# Altium footprint library PCB_PowerSupply.PcbLib: 3 footprints
Each footprint in its own frame and in the unit in brackets; x right, y up, seen from the top. Pads: shape width x height; smd on the part's side, far side on the other; paste and mask are expansions set on the pad; w line width, h text height; cw(c..) or ccw(c..) is an arc to the next point about the centre after c.
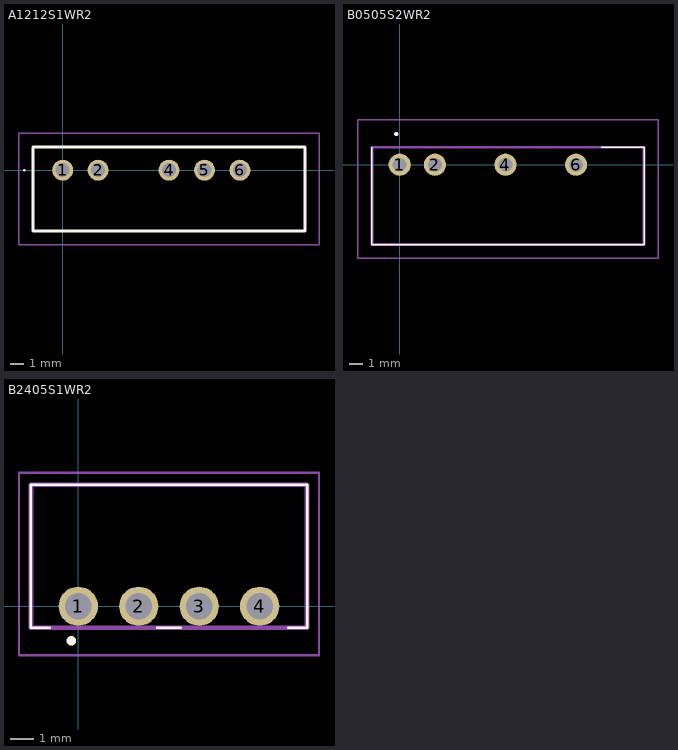
[diagram p0: the footprints below, top view; thin cyan lines are the x and y axes]

## A1212S1WR2 [mm]
pads (5):
  round 1.5 hole 1: 1(0,0) 2(2.54,0) 4(7.62,0) 5(10.16,0) 6(12.7,0)
Top Overlay:
  lines w0.1: -2.8,0 ccw(c-2.75,-0.001) -2.7,-0.002 ccw(c-2.75,-0.001) -2.8,0
  lines w0.2: -2.13,-4.35 17.37,-4.35 17.37,1.65 -2.13,1.65 -2.13,-4.35
Mechanical 13:
  lines w0.1: -2.13,-4.35 17.37,-4.35 17.37,1.65 -2.13,1.65 -2.13,-4.35
Mechanical 15:
  lines w0.1: -3.13,-5.35 18.37,-5.35 18.37,2.65 -3.13,2.65 -3.13,-5.35
3D body "A1212S-1WR2.stp": height 9.65, standoff -5, extent -2.13,-4.35 17.37,1.65

## B0505S2WR2 [mm]
pads (4):
  round 1.6 hole 1: 1(0,0) 2(2.54,0) 4(7.62,0) 6(12.7,0)
Top Overlay:
  lines w0.1: -2,-5.75 17.6,-5.75 ; -2,-5.75 17.6,-5.75 ; -2,-5.75 -2,1.25 -2,-5.75 ; 17.6,-5.75 17.6,1.25 ; 17.6,-5.75 17.6,1.25 ; 17.6,1.25 14.5,1.25 17.6,1.25
  lines w0.2: -0.3,2.2 ccw(c-0.25,2.2) -0.2,2.2 ; -0.3,2.2 cw(c-0.25,2.2) -0.2,2.2 ; -0.3,2.2 ccw(c-0.25,2.2) -0.2,2.2
Mechanical 13:
  lines w0.2: -2,-5.75 17.6,-5.75 17.6,1.25 -2,1.25 -2,-5.75
Mechanical 15:
  lines w0.1: -3,-6.75 18.6,-6.75 18.6,3.25 -3,3.25 -3,-6.75
3D body "B0505S-2WR2.stp": height 10.51, standoff -5, extent -2,-5.75 17.6,1.25

## B2405S1WR2 [mm]
pads (4):
  round 1.65 hole 1.1: 1(0,0) 2(2.54,0) 3(5.08,0) 4(7.62,0)
Top Overlay:
  lines w0.1: -1.19,-0.9 -1.99,-0.9 -1.99,5.1 9.61,5.1 9.61,-0.9 8.81,-0.9 ; 3.31,-0.9 4.31,-0.9
  lines w0.2: -0.39,-1.45 cw(c-0.29,-1.45) -0.19,-1.45 cw(c-0.29,-1.45) -0.39,-1.45
Mechanical 13:
  lines w0.2: -1.99,-0.9 9.61,-0.9 9.61,5.1 -1.99,5.1 -1.99,-0.9
Mechanical 15:
  lines w0.1: -2.49,-2.05 10.11,-2.05 10.11,5.6 -2.49,5.6 -2.49,-2.05
3D body "B2405S-1WR2.stp": height 10.26, standoff -5, extent -1.99,-0.9 9.61,5.1